# EAGLE library part ESP8684 (library Bits_library_eagle 9x)
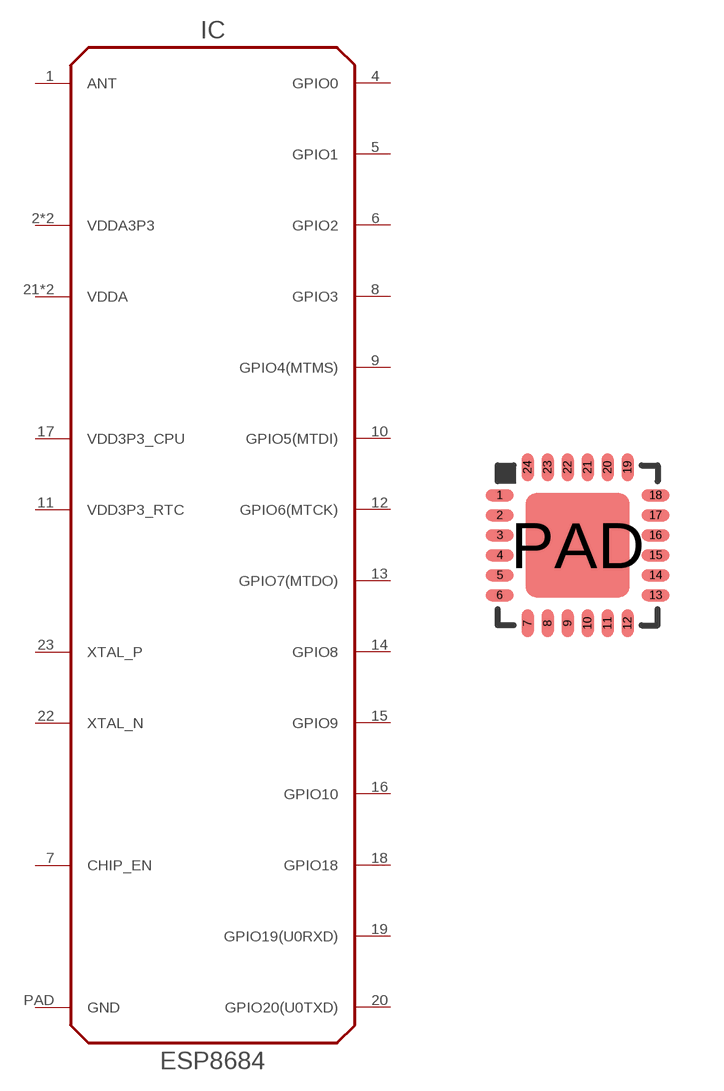
[diagram p61: symbol with the pads of QFN-24; footprint QFN-24]

Designator prefix IC

## ESP8684QFN24  [QFN-24]
1  ANT  pas
2  VDDA3P3  pwr
3  VDDA3P3  pwr
4  GPIO0
5  GPIO1
6  GPIO2
7  CHIP_EN
8  GPIO3
9  GPIO4(MTMS)
10  GPIO5(MTDI)
11  VDD3P3_RTC  pwr
12  GPIO6(MTCK)
13  GPIO7(MTDO)
14  GPIO8
15  GPIO9
16  GPIO10
17  VDD3P3_CPU  pwr
18  GPIO18
19  GPIO19(U0RXD)
20  GPIO20(U0TXD)
21  VDDA  pwr
22  XTAL_N  pas
23  XTAL_P  pas
24  VDDA  pwr
PAD  GND  pwr

## Footprint QFN-24 (pad centres in mm)
smd 0.7 x 0.3: 1 -1.95,1.25; 2 -1.95,0.75; 3 -1.95,0.25; 4 -1.95,-0.25; 5 -1.95,-0.75; 6 -1.95,-1.25; 13 1.95,-1.25; 14 1.95,-0.75; 15 1.95,-0.25; 16 1.95,0.25; 17 1.95,0.75; 18 1.95,1.25
smd 0.3 x 0.7: 7 -1.25,-1.95; 8 -0.75,-1.95; 9 -0.25,-1.95; 10 0.25,-1.95; 11 0.75,-1.95; 12 1.25,-1.95; 19 1.25,1.95; 20 0.75,1.95; 21 0.25,1.95; 22 -0.25,1.95; 23 -0.75,1.95; 24 -1.25,1.95
smd 2.6 x 2.6: PAD 0,0